# Altium schematic symbol library Toshiba.SchLib: 1 symbol
Pins are listed as number, name and electrical type; pins without a type are passive.

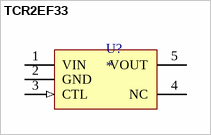
[diagram p0: symbol TCR2EF33]

## TCR2EF33
designator U?
200 mA CMOS Low Drop-Out Regulator with Fast Load Transient Response
footprint SOT95P275X130-5L (SOT23, 5-Leads, Body 2.90x2.75mm, Pitch 0.95mm, IPC High Density)
pins: 1 VIN (power), 2 GND (power), 3 CTL (in), 4 NC, 5 VOUT (power)